# Altium footprint library PAL.PcbLib: 209 footprints (part 8 of 14)
Each footprint in its own frame and in the unit in brackets; x right, y up, seen from the top. Pads: shape width x height; smd on the part's side, far side on the other; paste and mask are expansions set on the pad; w line width, h text height; cw(c..) or ccw(c..) is an arc to the next point about the centre after c.
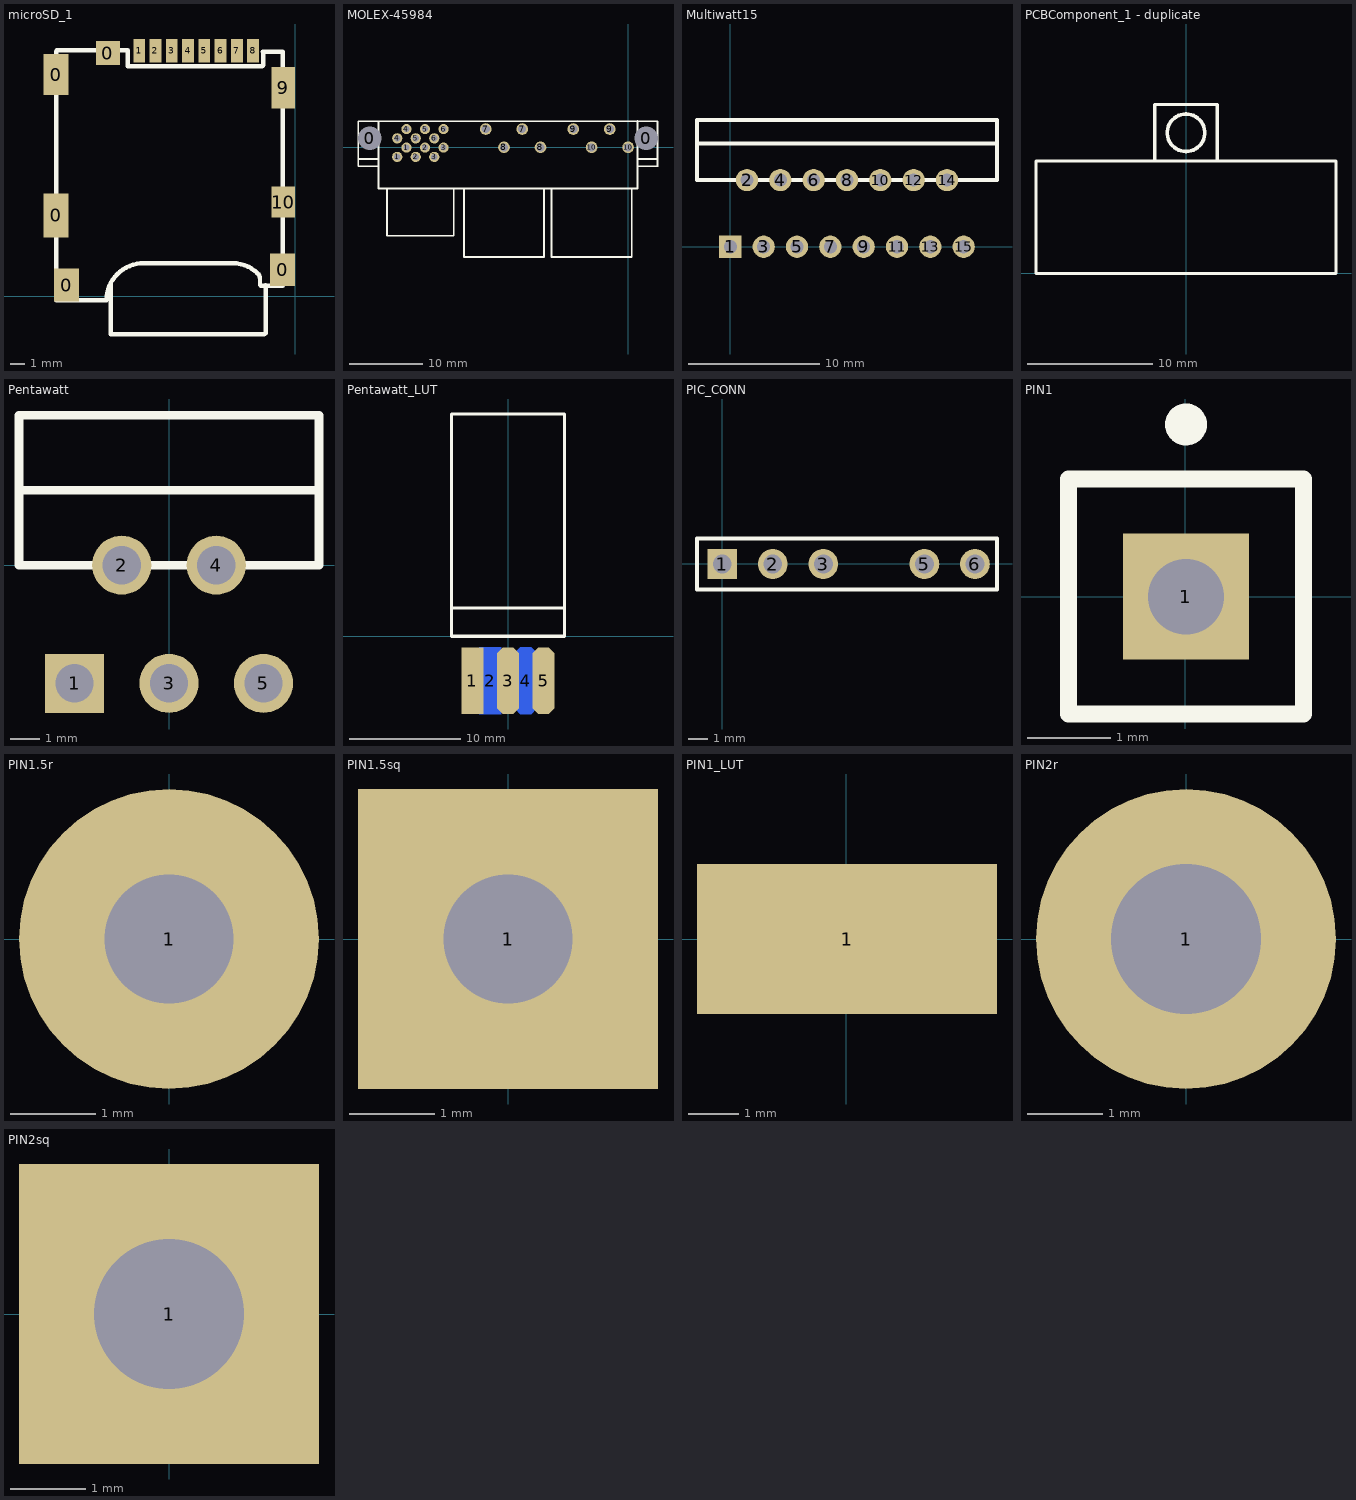
[diagram p7: the footprints below, top view; thin cyan lines are the x and y axes]

## microSD_1 [mm]
pads (15):
  rect 1.7x3 smd: 0(-16.141,5.47)
  rect 1.7x2.8 smd: 0(-16.141,14.995)
  rect 1.7x2.2 smd: 0(-15.44,0.77) 0(-0.84,1.795)
  rect 1.6x1.6 smd: 0(-12.641,16.445)
  rect 0.8x1.6 smd: 1(-10.531,16.595) 2(-9.43,16.595) 3(-8.33,16.595) 4(-7.231,16.595) 5(-6.13,16.595) 6(-5.031,16.595) 7(-3.931,16.595) 8(-2.83,16.595)
  rect 1.6x2.8 smd: 9(-0.79,14.095)
  rect 1.6x2.1 smd: 10(-0.79,6.37)
Top Overlay:
  lines w0.3: -12.465,0.845 -12.465,-2.555 -2.066,-2.555 -1.991,-2.48 -1.991,0.745 -2.016,0.77 ; -16.14,-0.255 -16.141,16.57 -16.091,16.62 -11.291,16.62 -11.291,15.57 -11.315,15.545 -2.216,15.545 -2.141,15.62 -2.141,16.495 -2.165,16.52 -0.841,16.52 -0.816,16.495 -0.816,0.72 -2.315,0.72 -2.365,0.77 -2.365,1.183 ccw(c-2.878,1.183) -2.515,1.545 ccw(c-4.205,-0.145) -4.205,2.245 -10.205,2.245 ccw(c-10.205,-0.316) -12.016,1.495 ccw(c-10.266,-0.255) -12.74,-0.255 -16.14,-0.255

## MOLEX-45984 [mm]
pads (22):
  round 3 hole 3.2: 0(-35.4,1.25) 0(2.5,1.25)
  round 1.4 hole 0.85: 1(-31.63,-1.31) 1(-30.36,-0.04) 2(-29.09,-1.31) 2(-27.82,-0.04) 3(-26.55,-1.31) 3(-25.28,-0.04) 4(-31.625,1.23) 4(-30.36,2.5) 5(-29.09,1.23) 5(-27.82,2.5) 6(-26.55,1.23) 6(-25.28,2.5)
  round 1.6 hole 1.1: 7(-19.5,2.5) 7(-14.5,2.5) 8(-17,0) 8(-12,0) 9(-7.5,2.5) 9(-2.5,2.5) 10(-5,0) 10(0,0)
Top Overlay:
  lines w0.25: -36.925,-1.6 -34.225,-1.6 ; -34.25,-2.6 -36.975,-2.6 -36.975,3.575 -34.175,3.575 ; -34.2,3.575 -34.2,-5.625 1.3,-5.625 1.3,3.6 ; -34.2,3.58 1.3,3.58 ; -33.055,-12.12 -23.9,-12.1 ; -33.025,-12.1 -33.025,-5.625 ; -23.875,-12.1 -23.875,-5.625 ; -22.5,-5.625 -22.5,-15.02 -11.5,-15.02 -11.5,-5.625 ; -10.5,-5.625 -10.5,-15.02 0.5,-15.02 0.5,-5.625 ; 1.25,3.575 4.05,3.575 4.05,-2.6 ; 1.3,-1.6 4,-1.6 4.025,-1.575 ; 1.325,-2.6 4.05,-2.6 ; 4.05,-2.6 4.05,-2.6

## Multiwatt15 [mm]
pads (15):
  rect 1.7x1.7 hole 1: 1(0,0)
  round 1.7 hole 1: 2(1.27,5.08) 3(2.54,0) 4(3.81,5.08) 5(5.08,0) 6(6.35,5.08) 7(7.62,0) 8(8.89,5.08) 9(10.16,0) 10(11.43,5.08) 11(12.7,0) 12(13.97,5.08) 13(15.24,0) 14(16.51,5.08) 15(17.78,0)
Top Overlay:
  lines w0.3: -2.54,7.874 20.32,7.874 ; -2.54,5.08 -2.54,9.652 20.32,9.652 20.32,5.08 -2.54,5.08

## PCBComponent_1 [mm]

## PCBComponent_1 - duplicate [mm]
Top Overlay:
  lines w0.254: -2.5,9 -2.5,13.5 0,13.5 2.5,13.5 2.5,9 ; -12,0 0,0 12,0 12,9 0,9 -12,9 -12,0
  lines w0.3: 0,9.75 cw(c0,11.25) 0,12.75 cw(c0,11.25) 0,9.75

## PCBComponent_1 - duplicate1 [mm]

## PCBComponent_1 - duplicate2 [mm]

## Pentawatt [mm]
pads (5):
  rect 2x2 hole 1.3: 1(-3.2,-4)
  round 2 hole 1.3: 2(-1.6,0) 3(0,-4) 4(1.6,0) 5(3.2,-4)
Top Overlay:
  lines w0.3: -5.08,2.54 5.08,2.54 ; -5.08,0 5.08,0 5.08,5.08 -5.08,5.08 -5.08,0

## Pentawatt_LUT [mm]
pads (5):
  rect 2x6 smd: 1(-3.2,-4)
  rect 2x6 smd far side: 2(-1.6,-4)
  oct 2x6 smd: 3(0,-4) 5(3.2,-4)
  oct 2x6 smd far side: 4(1.6,-4)
Top Overlay:
  lines w0.3: -5.08,2.54 5.08,2.54 ; -5.08,0 5.08,0 5.08,20 -5.08,20 -5.08,0

## PIC_CONN [mm]
pads (5):
  rect 1.5x1.5 hole 0.95: 1(-0.009,-0.01)
  round 1.5 hole 0.95: 2(2.531,-0.01) 3(5.071,-0.01) 5(10.151,-0.01) 6(12.691,-0.01)
Top Overlay:
  lines w0.2: -1.279,-1.28 -1.279,1.26 13.801,1.26 13.801,-1.28 -1.279,-1.28

## PIN1 [mm]
pads (1):
  rect 1.5x1.5 hole 0.9: 1(0.012,0.005)
Top Overlay:
  circle w0.25: c0.012,2.055 r0.125
  lines w0.2: -1.388,-1.395 1.412,-1.395 1.412,1.405 -1.388,1.405 -1.388,-1.395

## PIN1.5r [mm]
pads (1):
  round 3.5 hole 1.5: 1(0,0)

## PIN1.5sq [mm]
pads (1):
  rect 3.5x3.5 hole 1.5: 1(0,0)

## PIN1_LUT [mm]
pads (1):
  rect 6x3 smd: 1(0.012,0.005)

## PIN2r [mm]
pads (1):
  round 4 hole 2: 1(0,0)

## PIN2sq [mm]
pads (1):
  rect 4x4 hole 2: 1(0,0)